# Altium schematic symbol library EEUFK1E471B.SchLib: 1 symbol
Pins are listed as number, name and electrical type; pins without a type are passive.

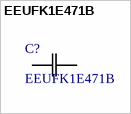
[diagram p0: symbol EEUFK1E471B]

## EEUFK1E471B
designator C?
No Description Available; Manufacturer_Name: Panasonic; Copyright: Copyright (C) 2026 Ultra Librarian. All rights reserved.; Manufacturer_Part_Number: EEUFK1E471B
footprint CAP_PAN_10X12.5_PAN
pins: 1, 2